# Altium schematic symbol library CN-TB0221600000G.Schlib: 1 symbol
Pins are listed as number, name and electrical type; pins without a type are passive.

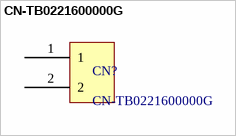
[diagram p0: symbol CN-TB0221600000G]

## CN-TB0221600000G
designator CN?
V=300V, I = 15A, Hight current connector
pins: 1, 2